# Altium schematic symbol library RTC.SCHLIB: 3 symbols
Pins are listed as number, name and electrical type; pins without a type are passive.

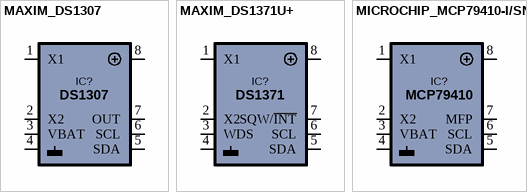
[diagram p0: symbols MAXIM_DS1307 to MICROCHIP_MCP79410-I/SN]

## MAXIM_DS1307
designator IC?, comment DS1307  (value not drawn)
Real Time Clock; Manufacturer 1: Maxim; Manufacturer Part Number 1: DS1307ZN+; Supplier 1: Farnell; Supplier Part Number 1: 9725253; Verified: YES
footprint SOIC127P500X400X175-8N (SOIC, 8-Leads, Body 5,0x4,0mm (max), Pitch 1,27mm, IPC Medium Density)
pins: 1 X1, 2 X2, 3 VBAT, 4 GND, 5 SDA, 6 SCL, 7 OUT, 8 VCC

## MAXIM_DS1371U+
designator IC?
Real Time Clock
pins: 1 X1, 2 X2, 3 WDS, 4 GND, 5 SDA, 6 SCL, 7 SQW/~{INT}, 8 VCC
text: DS1371

## MICROCHIP_MCP79410-I/SN
designator IC?, comment MCP79410  (value not drawn)
Real Time Clock; Manufacturer 1: Microchip; Manufacturer Part Number 1: MCP79410-I/SN; Supplier 1: Farnell; Supplier Part Number 1: 1823155; Verified: NO
footprint SOIC127P500X400X175-8N (SOIC, 8-Leads, Body 5,0x4,0mm (max), Pitch 1,27mm, IPC Medium Density)
pins: 1 X1, 2 X2, 3 VBAT, 4 GND, 5 SDA, 6 SCL, 7 MFP, 8 VCC